# Altium footprint library TLF9UB203WK1.PcbLib: 1 footprints
Each footprint in its own frame and in the unit in brackets; x right, y up, seen from the top. Pads: shape width x height; smd on the part's side, far side on the other; paste and mask are expansions set on the pad; w line width, h text height; cw(c..) or ccw(c..) is an arc to the next point about the centre after c.
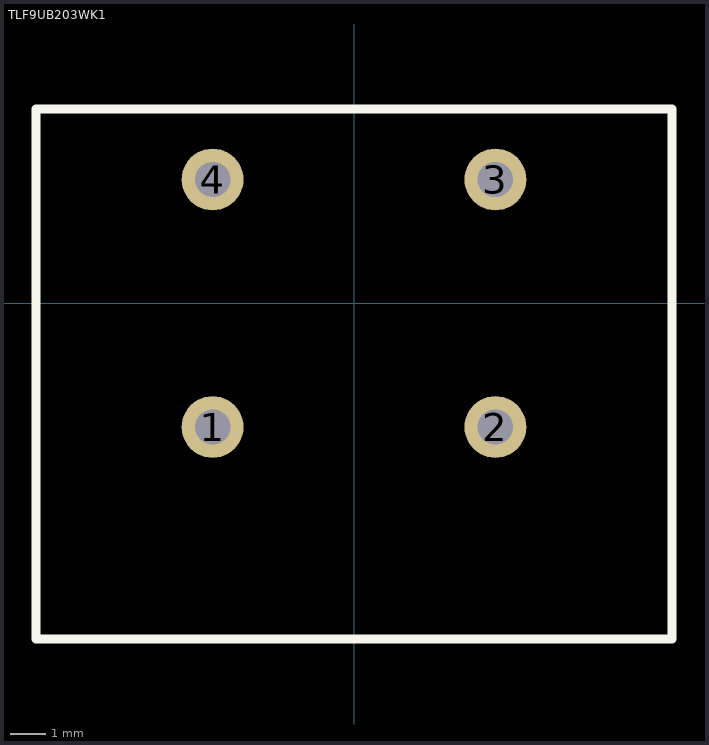
[diagram p0: the footprint, top view; thin cyan lines are the x and y axes]

## TLF9UB203WK1 [mm] "Taiyo Yuden 20mH Common Mode Choke"
pads (4):
  round 1.75 hole 1: 1(-4,-3.5) 2(4,-3.5) 3(4,3.5) 4(-4,3.5)
Top Overlay:
  lines w0.254: -9,-9.5 -9,5.5 9,5.5 9,-9.5 -9,-9.5
3D body: height 0, standoff -2, extent -4.311,-3.805 -3.713,-3.206
3D body: height 0, standoff -2, extent 3.716,-3.805 4.313,-3.206
3D body: height 0, standoff -2, extent 3.69,3.206 4.288,3.805
3D body: height 0, standoff -2, extent -4.311,3.206 -3.713,3.805
3D body: height 10.97, standoff 3, extent -3.8,-3.971 3.8,4.013
3D body: height 12.46, standoff 1.5, extent -0.4,-5.644 0.4,5.334
3D body: height 12.46, standoff 1.5, extent -3.804,-5.644 -3.004,5.334
3D body: height 12.46, standoff 1.5, extent 3.029,-5.644 3.829,5.334
3D body: height 15, standoff 4, extent -7.976,-1.422 8.026,1.422
3D body: height 4, standoff 0, extent -6.147,-4.737 6.147,4.483